# Altium footprint library MFRHT200322.PcbLib: 1 footprints
Each footprint in its own frame and in the unit in brackets; x right, y up, seen from the top. Pads: shape width x height; smd on the part's side, far side on the other; paste and mask are expansions set on the pad; w line width, h text height; cw(c..) or ccw(c..) is an arc to the next point about the centre after c.
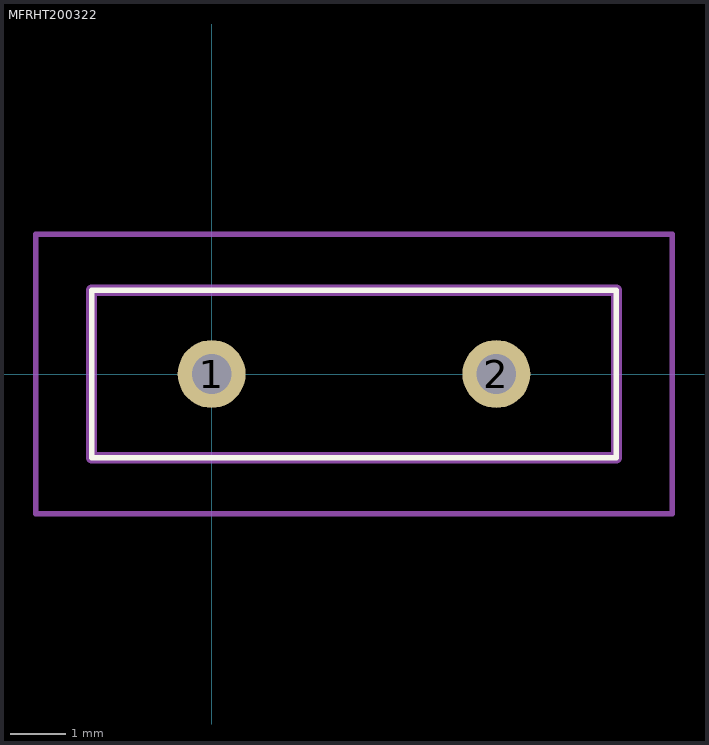
[diagram p0: the footprint, top view; thin cyan lines are the x and y axes]

## MFRHT200322 [mm]
pads (2):
  round 1.217 hole 0.71: 1(0,0) 2(5.1,0)
Top Overlay:
  lines w0.1: -2.15,-1.5 7.25,-1.5 7.25,1.5 -2.15,1.5 -2.15,-1.5
Mechanical 15:
  lines w0.2: -2.15,-1.5 7.25,-1.5 7.25,1.5 -2.15,1.5 -2.15,-1.5
Mechanical 20:
  lines w0.1: -3.15,-2.5 8.25,-2.5 8.25,2.5 -3.15,2.5 -3.15,-2.5